# Altium schematic symbol library RF_AM_FM.SchLib: 13 symbols
Pins are listed as number, name and electrical type; pins without a type are passive.

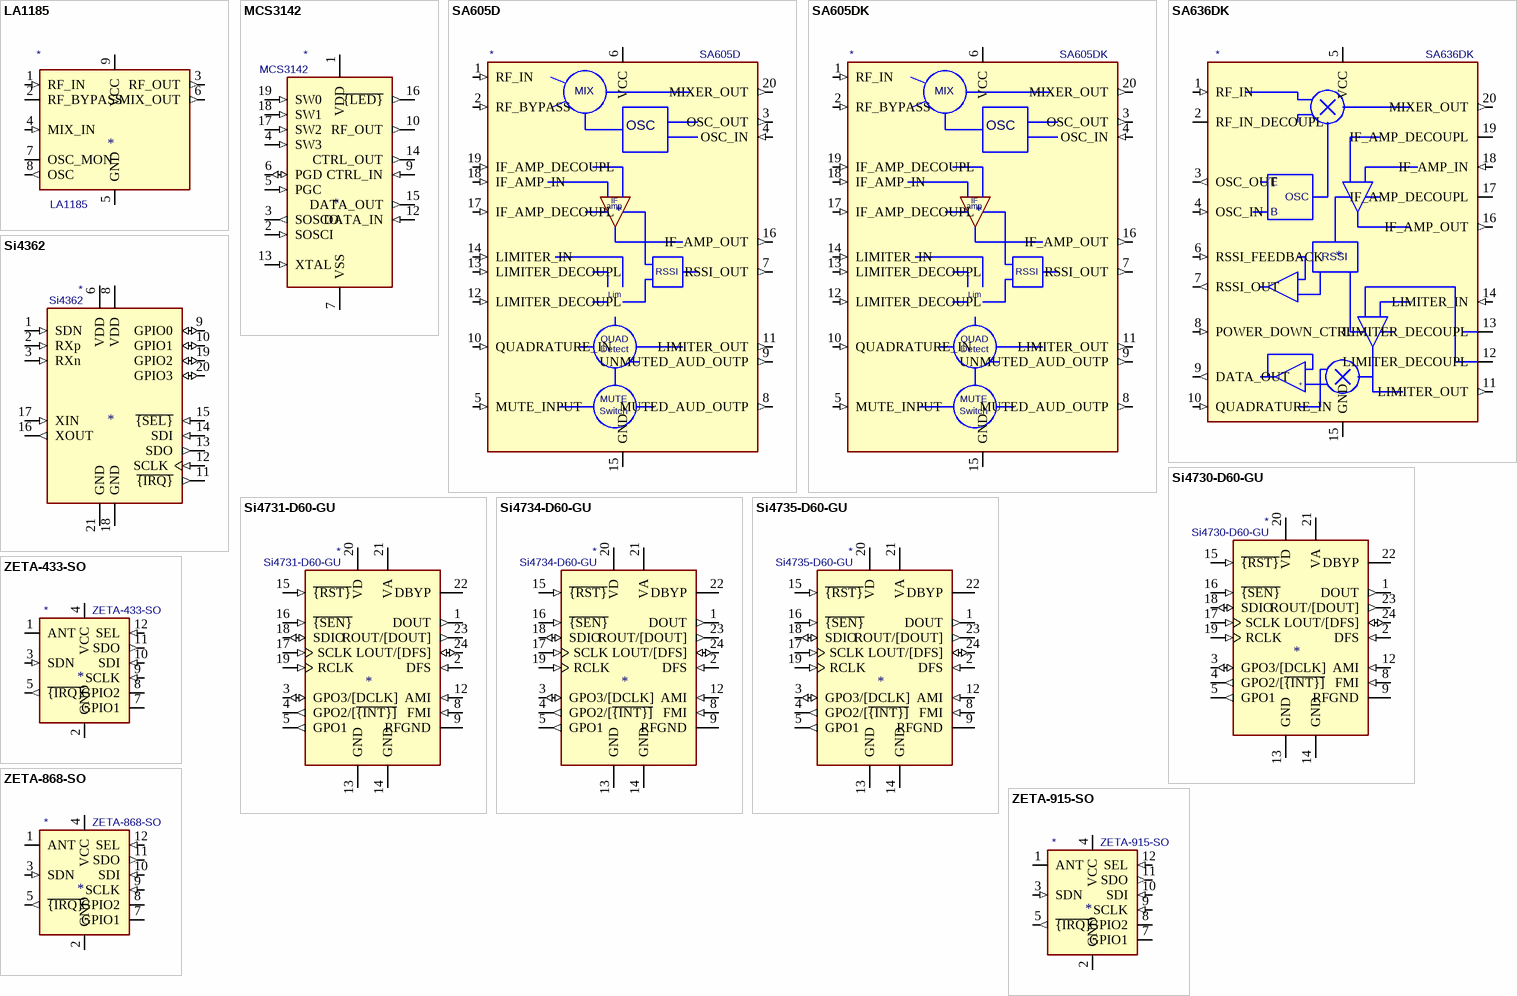
[diagram p0: symbols LA1185 to ZETA-915-SO]

## LA1185
designator *  value LA1185
ki_keywords: FM mixer receiver amplifier; ki_description: FM receiver front-end IC for radio-cassette recorder, music center applications, SIP-9; ki_fp_filters: SIP*22.3x3mm*P2.54mm*; Footprint: Package_SIP:SIP-9_22.3x3mm_P2.54mm; Supplier: https://www.alldatasheet.com/datasheet-pdf/pdf/39974/SANYO/LA1185.html
footprint SIP-9_22.3x3mm_P2.54mm
pins: 1 RF_IN (in), 2 RF_BYPASS, 3 RF_OUT (out), 4 MIX_IN (in), 5 GND (power), 6 MIX_OUT (out), 7 OSC_MON, 8 OSC (out), 9 VCC (power)

## MCS3142
designator *  value MCS3142
ki_keywords: KEELOQ classic ultimate keyless entry keyfob ISM; ki_description: Microchip KEELOQ classic / ultimate encoder - keyfob IC sending button state, serial and authentiation as PWM/manchester encoded AM/FM signal in ISM bands; ki_fp_filters: TSSOP*4.4x6.5mm?P0.65mm*; Footprint: Package_SO:TSSOP-20_4.4x6.5mm_P0.65mm; Supplier: http://ww1.microchip.com/downloads/en/DeviceDoc/40001747A.pdf
footprint TSSOP-20_4.4x6.5mm_P0.65mm
pins: 1 VDD (power), 2 SOSCI (in), 3 SOSCO (out), 4 SW3 (in), 5 PGC (in), 6 PGD (io), 7 VSS (power), 8 VDD hidden, 9 CTRL_IN (in), 10 RF_OUT (out), 11 VSS hidden, 12 DATA_IN (in), 13 XTAL (in), 14 CTRL_OUT (out), 15 DATA_OUT (out), 16 ~{{LED}} (out), 17 SW2 (in), 18 SW1 (in), 19 SW0 (in), 20 VSS hidden

## SA605D
designator *  value SA605D
ki_keywords: High performance monolithic low-power FM IF system; ki_description: High performance monolithic low-power FM IF system, SO-20; ki_fp_filters: SO*12.8x7.5mm*P1.27mm*; Footprint: Package_SO:SO-20_12.8x7.5mm_P1.27mm; Supplier: https://www.nxp.com/docs/en/data-sheet/SA605.pdf
footprint SO-20_12.8x7.5mm_P1.27mm
pins: 1 RF_IN (in), 2 RF_BYPASS (in), 3 OSC_OUT (out), 4 OSC_IN (in), 5 MUTE_INPUT (in), 6 VCC (power), 7 RSSI_OUT (out), 8 MUTED_AUD_OUTP (out), 9 UNMUTED_AUD_OUTP (out), 10 QUADRATURE_IN (in), 11 LIMITER_OUT (out), 12 LIMITER_DECOUPL (in), 13 LIMITER_DECOUPL (in), 14 LIMITER_IN (in), 15 GND (power), 16 IF_AMP_OUT (out), 17 IF_AMP_DECOUPL (in), 18 IF_AMP_IN (in), 19 IF_AMP_DECOUPL (in), 20 MIXER_OUT (out)
text: MIX; OSC; IF; amp; RSSI; Lim; QUAD; Detect; MUTE; Switch

## SA605DK
designator *  value SA605DK
ki_keywords: High performance monolithic low-power FM IF system; ki_description: High performance monolithic low-power FM IF system, SSOP-20; ki_fp_filters: SSOP*4.4x6.5mm*P0.65mm*; Footprint: Package_SO:SSOP-20_4.4x6.5mm_P0.65mm; Supplier: https://www.nxp.com/docs/en/data-sheet/SA605.pdf
footprint SSOP-20_4.4x6.5mm_P0.65mm
pins: 1 RF_IN (in), 2 RF_BYPASS (in), 3 OSC_OUT (out), 4 OSC_IN (in), 5 MUTE_INPUT (in), 6 VCC (power), 7 RSSI_OUT (out), 8 MUTED_AUD_OUTP (out), 9 UNMUTED_AUD_OUTP (out), 10 QUADRATURE_IN (in), 11 LIMITER_OUT (out), 12 LIMITER_DECOUPL (in), 13 LIMITER_DECOUPL (in), 14 LIMITER_IN (in), 15 GND (power), 16 IF_AMP_OUT (out), 17 IF_AMP_DECOUPL (in), 18 IF_AMP_IN (in), 19 IF_AMP_DECOUPL (in), 20 MIXER_OUT (out)
text: MIX; OSC; IF; amp; RSSI; Lim; QUAD; Detect; MUTE; Switch

## SA636DK
designator *  value SA636DK
ki_keywords: Low-voltage, monolithic, FM, IF, RSSI; ki_description: Low-voltage, high performance, monolithic FM IF system with high-speed RSSI, SSOP-20; ki_fp_filters: SSOP*4.4x6.5mm*P0.65mm*; Footprint: Package_SO:SSOP-20_4.4x6.5mm_P0.65mm; Supplier: https://www.nxp.com/docs/en/data-sheet/SA636.pdf
footprint SSOP-20_4.4x6.5mm_P0.65mm
pins: 1 RF_IN (in), 2 RF_IN_DECOUPL, 3 OSC_OUT (out), 4 OSC_IN (in), 5 VCC (power), 6 RSSI_FEEDBACK (in), 7 RSSI_OUT (out), 8 POWER_DOWN_CTRL (in), 9 DATA_OUT (out), 10 QUADRATURE_IN (in), 11 LIMITER_OUT (out), 12 LIMITER_DECOUPL, 13 LIMITER_DECOUPL, 14 LIMITER_IN (in), 15 GND (power), 16 IF_AMP_OUT (out), 17 IF_AMP_DECOUPL, 18 IF_AMP_IN (in), 19 IF_AMP_DECOUPL, 20 MIXER_OUT (out)
text: E; OSC; B; RSSI; +

## Si4362
designator *  value Si4362
ki_keywords: radio receiver; ki_description: EZRadioPRO Low Current Receiver; ki_fp_filters: QFN*4x4mm*P0.5mm*; Footprint: Package_DFN_QFN:QFN-20-1EP_4x4mm_P0.5mm_EP2.5x2.5mm; Supplier: http://www.silabs.com/Support%20Documents/TechnicalDocs/Si4362.pdf
footprint QFN-20-1EP_4x4mm_P0.5mm_EP2.5x2.5mm
pins: 1 SDN (in), 2 RXp (in), 3 RXn (in), 4 NC (in) hidden, 5 NC (in) hidden, 6 VDD (power), 7 NC (in) hidden, 8 VDD (power), 9 GPIO0 (io), 10 GPIO1 (io), 11 ~{{IRQ}} (out), 12 SCLK (in), 13 SDO (out), 14 SDI (in), 15 ~{{SEL}} (in), 16 XOUT (out), 17 XIN (in), 18 GND (power), 19 GPIO2 (io), 20 GPIO3 (io), 21 GND (power)

## Si4730-D60-GU
designator *  value Si4730-D60-GU
ki_keywords: Broadcast AM FM Radio Receiver; ki_description: AM/FM Broadcast Radio Receiver; ki_fp_filters: SSOP*3.9x8.7mm*P0.635mm*; Footprint: Package_SO:SSOP-24_3.9x8.7mm_P0.635mm; Supplier: http://www.silabs.com/Support%20Documents/TechnicalDocs/Si4730-31-34-35-D60.pdf
footprint SSOP-24_3.9x8.7mm_P0.635mm
pins: 1 DOUT (out), 2 DFS (in), 3 GPO3/[DCLK] (io), 4 GPO2/[~{{INT}]} (out), 5 GPO1 (out), 6 NC (in) hidden, 7 NC (in) hidden, 8 FMI (in), 9 RFGND (power), 10 NC (in) hidden, 11 NC (in) hidden, 12 AMI (in), 13 GND (power), 14 GND (power), 15 ~{{RST}} (in), 16 ~{{SEN}} (in), 17 SCLK (in), 18 SDIO (io), 19 RCLK (in), 20 VD (power), 21 VA (power), 22 DBYP, 23 ROUT/[DOUT] (out), 24 LOUT/[DFS] (io)

## Si4731-D60-GU
designator *  value Si4731-D60-GU
ki_keywords: Broadcast AM FM Radio Receiver RDS RBDS; ki_description: AM/FM Broadcast Radio Receiver with RDS/RBDS; ki_fp_filters: SSOP*3.9x8.7mm*P0.635mm*; Footprint: Package_SO:SSOP-24_3.9x8.7mm_P0.635mm; Supplier: http://www.silabs.com/Support%20Documents/TechnicalDocs/Si4730-31-34-35-D60.pdf
footprint SSOP-24_3.9x8.7mm_P0.635mm
pins: 1 DOUT (out), 2 DFS (in), 3 GPO3/[DCLK] (io), 4 GPO2/[~{{INT}]} (out), 5 GPO1 (out), 6 NC (in) hidden, 7 NC (in) hidden, 8 FMI (in), 9 RFGND (power), 10 NC (in) hidden, 11 NC (in) hidden, 12 AMI (in), 13 GND (power), 14 GND (power), 15 ~{{RST}} (in), 16 ~{{SEN}} (in), 17 SCLK (in), 18 SDIO (io), 19 RCLK (in), 20 VD (power), 21 VA (power), 22 DBYP, 23 ROUT/[DOUT] (out), 24 LOUT/[DFS] (io)

## Si4734-D60-GU
designator *  value Si4734-D60-GU
ki_keywords: Broadcast AM FM SW LW Radio Receiver; ki_description: AM/FM/SW/LW Broadcast Radio Receiver; ki_fp_filters: SSOP*3.9x8.7mm*P0.635mm*; Footprint: Package_SO:SSOP-24_3.9x8.7mm_P0.635mm; Supplier: http://www.silabs.com/Support%20Documents/TechnicalDocs/Si4730-31-34-35-D60.pdf
footprint SSOP-24_3.9x8.7mm_P0.635mm
pins: 1 DOUT (out), 2 DFS (in), 3 GPO3/[DCLK] (io), 4 GPO2/[~{{INT}]} (out), 5 GPO1 (out), 6 NC (in) hidden, 7 NC (in) hidden, 8 FMI (in), 9 RFGND (power), 10 NC (in) hidden, 11 NC (in) hidden, 12 AMI (in), 13 GND (power), 14 GND (power), 15 ~{{RST}} (in), 16 ~{{SEN}} (in), 17 SCLK (in), 18 SDIO (io), 19 RCLK (in), 20 VD (power), 21 VA (power), 22 DBYP, 23 ROUT/[DOUT] (out), 24 LOUT/[DFS] (io)

## Si4735-D60-GU
designator *  value Si4735-D60-GU
ki_keywords: Broadcast AM FM SW LW Radio Receiver RDS RBDS; ki_description: AM/FM/SW/LW Broadcast Radio Receiver with RDS/RBDS; ki_fp_filters: SSOP*3.9x8.7mm*P0.635mm*; Footprint: Package_SO:SSOP-24_3.9x8.7mm_P0.635mm; Supplier: http://www.silabs.com/Support%20Documents/TechnicalDocs/Si4730-31-34-35-D60.pdf
footprint SSOP-24_3.9x8.7mm_P0.635mm
pins: 1 DOUT (out), 2 DFS (in), 3 GPO3/[DCLK] (io), 4 GPO2/[~{{INT}]} (out), 5 GPO1 (out), 6 NC (in) hidden, 7 NC (in) hidden, 8 FMI (in), 9 RFGND (power), 10 NC (in) hidden, 11 NC (in) hidden, 12 AMI (in), 13 GND (power), 14 GND (power), 15 ~{{RST}} (in), 16 ~{{SEN}} (in), 17 SCLK (in), 18 SDIO (io), 19 RCLK (in), 20 VD (power), 21 VA (power), 22 DBYP, 23 ROUT/[DOUT] (out), 24 LOUT/[DFS] (io)

## ZETA-433-SO
designator *  value ZETA-433-SO
ki_keywords: RF TRANSCEIVER MODULE; ki_description: FM ZETA TRANSCEIVER MODULE, OPTIMISED FOR 433MHZ; ki_fp_filters: ZETA?433?SO?SMD* ZETA?433?SO?THT*; Supplier: https://www.rfsolutions.co.uk/downloads/1456219226DS-ZETA.pdf
pins: 1 ANT (io), 2 GND (power), 3 SDN (in), 4 VCC (power), 5 ~{{IRQ}} (out), 6 NC (in) hidden, 7 GPIO1 (io), 8 GPIO2 (io), 9 SCLK (in), 10 SDI (in), 11 SDO (out), 12 SEL (in)

## ZETA-868-SO
designator *  value ZETA-868-SO
ki_keywords: RF TRANSCEIVER MODULE; ki_description: FM ZETA TRANSCEIVER MODULE, OPTIMISED FOR 868MHZ; ki_fp_filters: ZETA?433?SO?SMD* ZETA?433?SO?THT*; Supplier: https://www.rfsolutions.co.uk/downloads/1456219226DS-ZETA.pdf
pins: 1 ANT (io), 2 GND (power), 3 SDN (in), 4 VCC (power), 5 ~{{IRQ}} (out), 6 NC (in) hidden, 7 GPIO1 (io), 8 GPIO2 (io), 9 SCLK (in), 10 SDI (in), 11 SDO (out), 12 SEL (in)

## ZETA-915-SO
designator *  value ZETA-915-SO
ki_keywords: RF TRANSCEIVER MODULE; ki_description: FM ZETA TRANSCEIVER MODULE, OPTIMISED FOR 915MHZ; ki_fp_filters: ZETA?433?SO?SMD* ZETA?433?SO?THT*; Supplier: https://www.rfsolutions.co.uk/downloads/1456219226DS-ZETA.pdf
pins: 1 ANT (io), 2 GND (power), 3 SDN (in), 4 VCC (power), 5 ~{{IRQ}} (out), 6 NC (in) hidden, 7 GPIO1 (io), 8 GPIO2 (io), 9 SCLK (in), 10 SDI (in), 11 SDO (out), 12 SEL (in)